# Altium footprint library Semi Conductor.PcbLib: 63 footprints (part 2 of 4)
Each footprint in its own frame and in the unit in brackets; x right, y up, seen from the top. Pads: shape width x height; smd on the part's side, far side on the other; paste and mask are expansions set on the pad; w line width, h text height; cw(c..) or ccw(c..) is an arc to the next point about the centre after c.
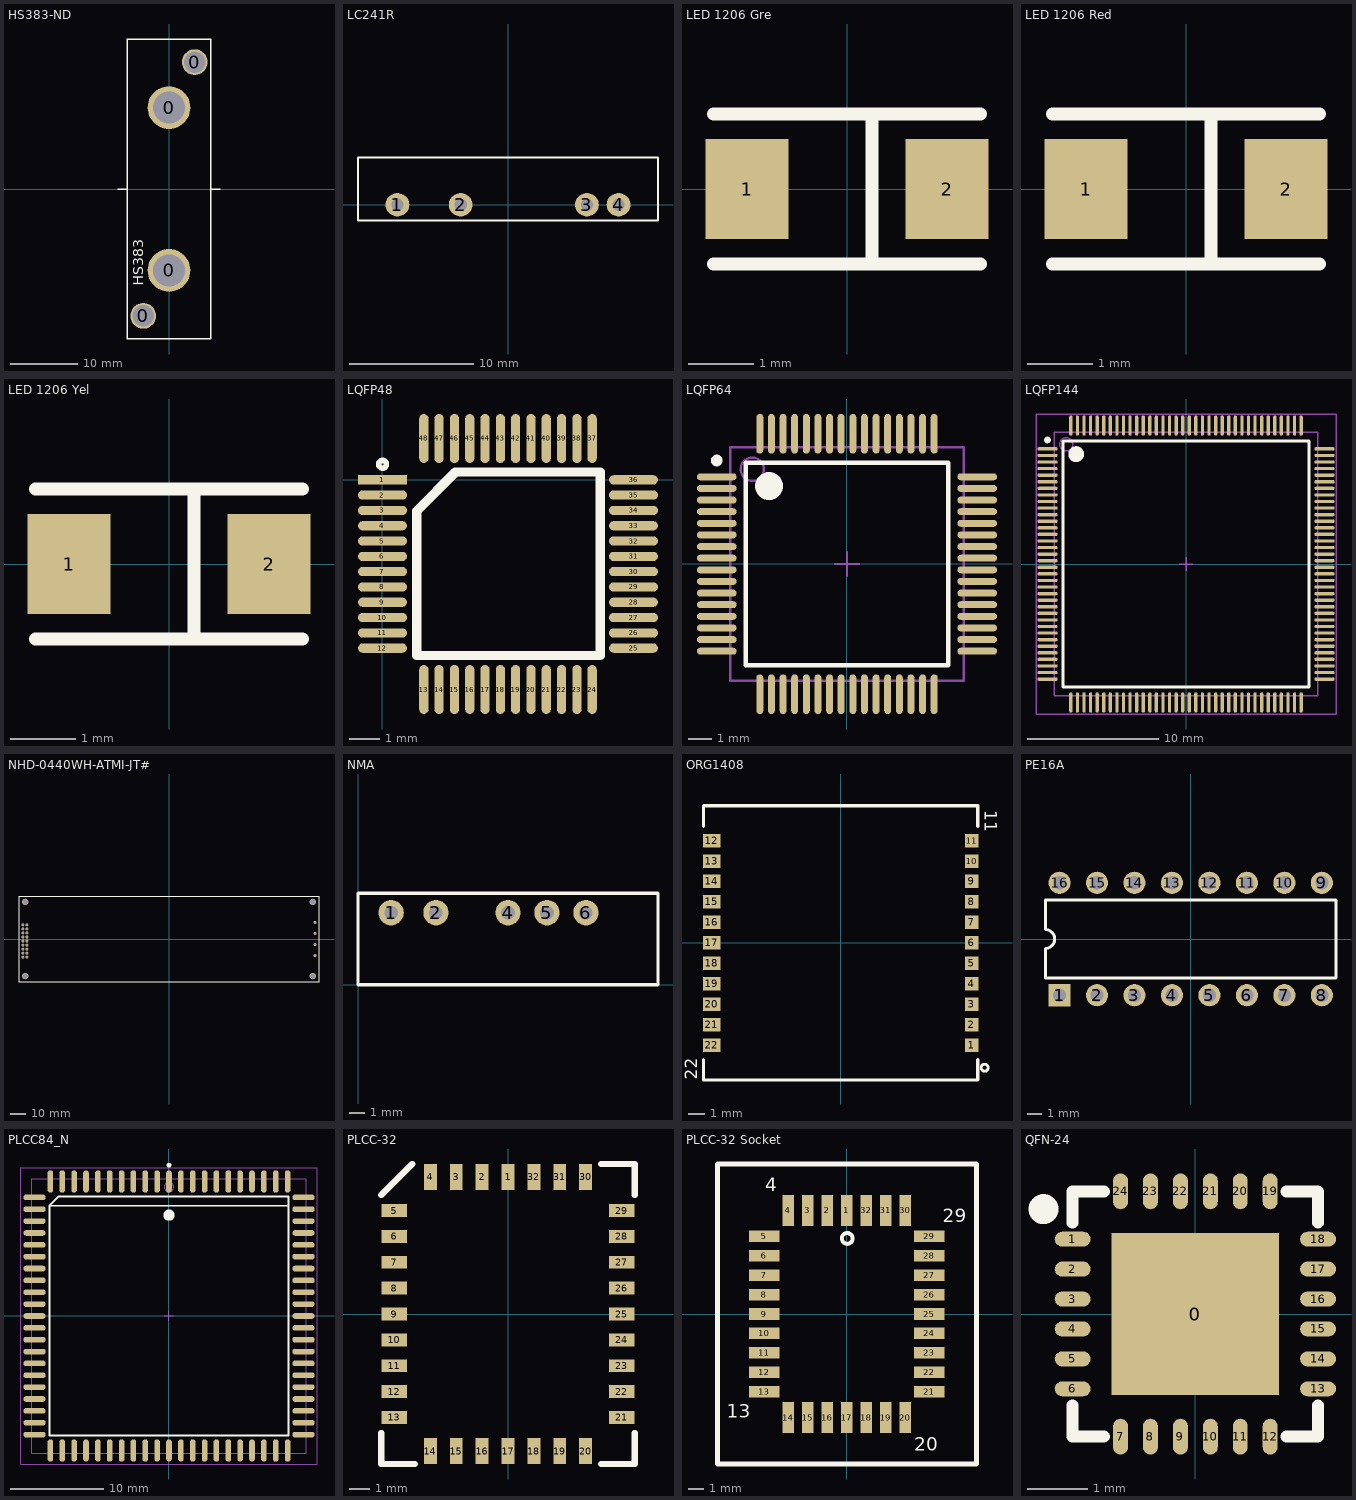
[diagram p1: the footprints below, top view; thin cyan lines are the x and y axes]

## HS383-ND [mil]
pads (4):
  round 150 / inner round 125 / far side round 150 hole 125: 0(-150,-740) 0(150,740)
  round 250 / inner round 187 / far side round 250 hole 187: 0(0,-475) 0(0,475)
TopOverlay:
  lines w8: -300,0 -245,0 ; 245,0 300,0 ; -245,-875 -245,875 245,875 245,-875 -245,-875
  text "HS383" at -150,-565 h60

## LC241R [mil] "Crydom SSR"
height 500
pads (4):
  round 75 hole 39: 1(-350,0) 2(-150,0) 3(250,0) 4(350,0)
TopOverlay:
  lines w7: -475,-50 -475,150 475,150 475,-50 -475,-50

## LED 1206 Gre [mil]
pads (2):
  rect 50x60 smd: 1(-60,0) 2(60,0)
TopOverlay:
  lines w8: -80,-45 80,-45 ; -80,45 80,45 ; 15,-45 15,45
3D body: height 43.81, standoff -15.9, extent -63,-32 63,31

## LED 1206 Red [mil] "LED 1206 footprint only"
height 25
pads (2):
  rect 50x60 smd: 1(-60,0) 2(60,0)
TopOverlay:
  lines w8: -80,-45 80,-45 ; -80,45 80,45 ; 15,-45 15,45
3D body: height 43.81, standoff -15.9, extent -63,-31 63,32

## LED 1206 Yel [mil]
pads (2):
  rect 50x60 smd: 1(-60,0) 2(60,0)
TopOverlay:
  lines w8: -80,-45 80,-45 ; -80,45 80,45 ; 15,-45 15,45
3D body: height 43.81, standoff -15.9, extent -63,-32 63,31

## LQFP48 [mm]
pads (48):
  rect 1.6x0.3 smd: 1(0,0)
  oval 1.6x0.3 smd: 2(0,-0.5) 3(0,-1) 4(0,-1.5) 5(0,-2) 6(0,-2.5) 7(0,-3) 8(0,-3.5) 9(0,-4) 10(0,-4.5) 11(0,-5) 12(0,-5.5) 25(8.2,-5.5) 26(8.2,-5) 27(8.2,-4.5) 28(8.2,-4) 29(8.2,-3.5) 30(8.2,-3) 31(8.2,-2.5) 32(8.2,-2) 33(8.2,-1.5) 34(8.2,-1) 35(8.2,-0.5) 36(8.2,0)
  oval 0.3x1.6 smd: 13(1.35,-6.85) 14(1.85,-6.85) 15(2.35,-6.85) 16(2.85,-6.85) 17(3.35,-6.85) 18(3.85,-6.85) 19(4.35,-6.85) 20(4.85,-6.85) 21(5.35,-6.85) 22(5.85,-6.85) 23(6.35,-6.85) 24(6.85,-6.85) 37(6.85,1.35) 38(6.35,1.35) 39(5.85,1.35) 40(5.35,1.35) 41(4.85,1.35) 42(4.35,1.35) 43(3.85,1.35) 44(3.35,1.35) 45(2.85,1.35) 46(2.35,1.35) 47(1.85,1.35) 48(1.35,1.35)
TopOverlay:
  circle w0.178: c0,0.508 r0.127
  lines w0.305: 1.118,-5.74 1.118,-5.512 1.118,-1.016 2.388,0.254 7.112,0.254 7.112,-5.74 1.118,-5.74
3D body: height 1.57, standoff 0, extent 0.635,-6.223 7.62,0.762

## LQFP64 [mm] "LQFP, 64-Leads, Body 12.1x12.1mm (max), Pitch 0.50mm, IPC Medium Density"
height 1.45
pads (64):
  oval 1.7x0.3 smd: 1(-5.6,3.75) 2(-5.6,3.25) 3(-5.6,2.75) 4(-5.6,2.25) 5(-5.6,1.75) 6(-5.6,1.25) 7(-5.6,0.75) 8(-5.6,0.25) 9(-5.6,-0.25) 10(-5.6,-0.75) 11(-5.6,-1.25) 12(-5.6,-1.75) 13(-5.6,-2.25) 14(-5.6,-2.75) 15(-5.6,-3.25) 16(-5.6,-3.75) 33(5.6,-3.75) 34(5.6,-3.25) 35(5.6,-2.75) 36(5.6,-2.25) 37(5.6,-1.75) 38(5.6,-1.25) 39(5.6,-0.75) 40(5.6,-0.25) 41(5.6,0.25) 42(5.6,0.75) 43(5.6,1.25) 44(5.6,1.75) 45(5.6,2.25) 46(5.6,2.75) 47(5.6,3.25) 48(5.6,3.75)
  oval 0.3x1.7 smd: 17(-3.75,-5.6) 18(-3.25,-5.6) 19(-2.75,-5.6) 20(-2.25,-5.6) 21(-1.75,-5.6) 22(-1.25,-5.6) 23(-0.75,-5.6) 24(-0.25,-5.6) 25(0.25,-5.6) 26(0.75,-5.6) 27(1.25,-5.6) 28(1.75,-5.6) 29(2.25,-5.6) 30(2.75,-5.6) 31(3.25,-5.6) 32(3.75,-5.6) 49(3.75,5.6) 50(3.25,5.6) 51(2.75,5.6) 52(2.25,5.6) 53(1.75,5.6) 54(1.25,5.6) 55(0.75,5.6) 56(0.25,5.6) 57(-0.25,5.6) 58(-0.75,5.6) 59(-1.25,5.6) 60(-1.75,5.6) 61(-2.25,5.6) 62(-2.75,5.6) 63(-3.25,5.6) 64(-3.75,5.6)
TopOverlay:
  circle w0.6: c-3.35,3.35 r0.3
  circle w0.25: c-5.6,4.45 r0.125
  lines w0.2: -4.35,-4.35 4.35,-4.35 4.35,4.35 -4.35,4.35 -4.35,-4.35
Mechanical13:
  circle w0.1: c-4.075,4.075 r0.5
  lines w0.1: -5.025,-5.025 5.025,-5.025 5.025,5.025 -5.025,5.025 -5.025,-5.025
Mechanical15:
  lines w0.1: -0.5,0 0.5,0 ; 0,-0.5 0,0.5
3D body: height 1.45, standoff 0.15, extent -5.025,-5.025 5.025,5.025

## LQFP144 [mm]
pads (144):
  oval 1.55x0.25 smd: 1(-10.525,8.75) 2(-10.525,8.25) 3(-10.525,7.75) 4(-10.525,7.25) 5(-10.525,6.75) 6(-10.525,6.25) 7(-10.525,5.75) 8(-10.525,5.25) 9(-10.525,4.75) 10(-10.525,4.25) 11(-10.525,3.75) 12(-10.525,3.25) 13(-10.525,2.75) 14(-10.525,2.25) 15(-10.525,1.75) 16(-10.525,1.25) 17(-10.525,0.75) 18(-10.525,0.25) 19(-10.525,-0.25) 20(-10.525,-0.75) 21(-10.525,-1.25) 22(-10.525,-1.75) 23(-10.525,-2.25) 24(-10.525,-2.75) 25(-10.525,-3.25) 26(-10.525,-3.75) 27(-10.525,-4.25) 28(-10.525,-4.75) 29(-10.525,-5.25) 30(-10.525,-5.75) 31(-10.525,-6.25) 32(-10.525,-6.75) 33(-10.525,-7.25) 34(-10.525,-7.75) 35(-10.525,-8.25) 36(-10.525,-8.75) 73(10.525,-8.75) 74(10.525,-8.25) 75(10.525,-7.75) 76(10.525,-7.25) 77(10.525,-6.75) 78(10.525,-6.25) 79(10.525,-5.75) 80(10.525,-5.25) 81(10.525,-4.75) 82(10.525,-4.25) 83(10.525,-3.75) 84(10.525,-3.25) 85(10.525,-2.75) 86(10.525,-2.25) 87(10.525,-1.75) 88(10.525,-1.25) 89(10.525,-0.75) 90(10.525,-0.25) 91(10.525,0.25) 92(10.525,0.75) 93(10.525,1.25) 94(10.525,1.75) 95(10.525,2.25) 96(10.525,2.75) 97(10.525,3.25) 98(10.525,3.75) 99(10.525,4.25) 100(10.525,4.75) 101(10.525,5.25) 102(10.525,5.75) 103(10.525,6.25) 104(10.525,6.75) 105(10.525,7.25) 106(10.525,7.75) 107(10.525,8.25) 108(10.525,8.75)
  oval 0.25x1.55 smd: 37(-8.75,-10.525) 38(-8.25,-10.525) 39(-7.75,-10.525) 40(-7.25,-10.525) 41(-6.75,-10.525) 42(-6.25,-10.525) 43(-5.75,-10.525) 44(-5.25,-10.525) 45(-4.75,-10.525) 46(-4.25,-10.525) 47(-3.75,-10.525) 48(-3.25,-10.525) 49(-2.75,-10.525) 50(-2.25,-10.525) 51(-1.75,-10.525) 52(-1.25,-10.525) 53(-0.75,-10.525) 54(-0.25,-10.525) 55(0.25,-10.525) 56(0.75,-10.525) 57(1.25,-10.525) 58(1.75,-10.525) 59(2.25,-10.525) 60(2.75,-10.525) 61(3.25,-10.525) 62(3.75,-10.525) 63(4.25,-10.525) 64(4.75,-10.525) 65(5.25,-10.525) 66(5.75,-10.525) 67(6.25,-10.525) 68(6.75,-10.525) 69(7.25,-10.525) 70(7.75,-10.525) 71(8.25,-10.525) 72(8.75,-10.525) 109(8.75,10.525) 110(8.25,10.525) 111(7.75,10.525) 112(7.25,10.525) 113(6.75,10.525) 114(6.25,10.525) 115(5.75,10.525) 116(5.25,10.525) 117(4.75,10.525) 118(4.25,10.525) 119(3.75,10.525) 120(3.25,10.525) 121(2.75,10.525) 122(2.25,10.525) 123(1.75,10.525) 124(1.25,10.525) 125(0.75,10.525) 126(0.25,10.525) 127(-0.25,10.525) 128(-0.75,10.525) 129(-1.25,10.525) 130(-1.75,10.525) 131(-2.25,10.525) 132(-2.75,10.525) 133(-3.25,10.525) 134(-3.75,10.525) 135(-4.25,10.525) 136(-4.75,10.525) 137(-5.25,10.525) 138(-5.75,10.525) 139(-6.25,10.525) 140(-6.75,10.525) 141(-7.25,10.525) 142(-7.75,10.525) 143(-8.25,10.525) 144(-8.75,10.525)
TopOverlay:
  circle w0.25: c-10.525,9.425 r0.125
  circle w0.6: c-8.35,8.35 r0.3
  lines w0.2: -9.35,-9.35 -9.35,9.35 9.35,9.35 9.35,-9.35 -9.35,-9.35
Mechanical13:
  circle w0.1: c-9.1,9.1 r0.5
  lines w0.1: -10,-10 -10,10 10,10 10,-10 -10,-10
Mechanical15:
  lines w0.1: -0.5,0 0.5,0 ; 0,-0.5 0,0.5 ; -11.4,-11.4 -11.4,11.4 11.4,11.4 11.4,-11.4 -11.4,-11.4
3D body: height 1.6, standoff 0, extent -10,-10 10,10

## NHD-0440WH-ATMI-JT# [mm]
pads (26):
  round 4 hole 3.5: 0(-91.059,-23.495) 0(-91.059,23.495) 0(91.059,-23.495) 0(91.059,23.495)
  round 1.8 hole 1.016: 1(-92.489,8.89) 2(-89.949,8.89) 3(-92.489,6.35) 4(-89.949,6.35) 5(-92.489,3.81) 6(-89.949,3.81) 7(-92.489,1.27) 8(-89.949,1.27) 9(-92.489,-1.27) 10(-89.949,-1.27) 11(-92.489,-3.81) 12(-89.949,-3.81) 13(-92.489,-6.35) 14(-89.949,-6.35) 15(-92.489,-8.89) 16(-89.949,-8.89) 17(-92.489,-11.43) 18(-89.949,-11.43) 19(92.489,10.5) 20(92.489,3.5) 21(92.489,-3.5) 22(92.489,-10.5)
TopOverlay:
  lines w0.203: -95,-27.051 94.996,-27.051 94.996,27.051 -95,27.051 ; -94.996,-27.051 -94.996,27.051

## NMA [mil]
pads (5):
  round 65 / inner round 35 / far side round 65 hole 35: 1(85,185) 2(200,185) 4(385,185) 5(485,185) 6(585,185)
TopOverlay:
  lines w8: 0,0 0,235 770,235 770,0 0,0

## ORG1408 [mil]
pads (22):
  rect 33x33 smd: 1(320,-250) 2(320,-200) 3(320,-150) 4(320,-100) 5(320,-50) 6(320,0) 7(320,50) 8(320,100) 9(320,150) 10(320,200) 11(320,250)
  rect 42x33 smd: 12(-315,250) 13(-315,200) 14(-315,150) 15(-315,100) 16(-315,50) 17(-315,0) 18(-315,-50) 19(-315,-100) 20(-315,-150) 21(-315,-200) 22(-315,-250)
TopOverlay:
  circle w7: c352,-305 r8.6
  lines w8: -335,-285 -335,-335 335,-335 335,-285 ; -335,285 -335,335 335,335 335,285
  text "22" at -351,-335 h30
  text "11" at 352,324 h30
3D body: height 175, standoff 3, extent -40,78 39,320
3D body: height 175, standoff 0, extent -91,-89 88.29,90.64
3D body: height 103, standoff 3, extent -329,-332 330,330

## PE16A [mm] "DIP; 16 Leads; Row Spacing 7.62 mm; Pitch 2.54 mm"
height 5.08
pads (16):
  rect 1.5x1.5 hole 0.889: 1(-8.89,-3.81)
  round 1.5 hole 0.889: 2(-6.35,-3.81) 3(-3.81,-3.81) 4(-1.27,-3.81) 5(1.27,-3.81) 6(3.81,-3.81) 7(6.35,-3.81) 8(8.89,-3.81) 9(8.89,3.81) 10(6.35,3.81) 11(3.81,3.81) 12(1.27,3.81) 13(-1.27,3.81) 14(-3.81,3.81) 15(-6.35,3.81) 16(-8.89,3.81)
TopOverlay:
  lines w0.2: -9.85,-2.65 9.85,-2.65 9.85,2.65 -9.85,2.65 -9.85,0.635 cw(c-9.85,0) -9.85,-0.635 -9.85,-2.65

## PLCC84_N [mm] "Leaded Chip Carrier, 84-Leads, Body 29.3x29.3mm, Pitch 1.27mm, IPC Medium Density"
height 4.58
pads (84):
  oval 0.6x2.4 smd: 1(0,14.4) 2(-1.27,14.4) 3(-2.54,14.4) 4(-3.81,14.4) 5(-5.08,14.4) 6(-6.35,14.4) 7(-7.62,14.4) 8(-8.89,14.4) 9(-10.16,14.4) 10(-11.43,14.4) 11(-12.7,14.4) 33(-12.7,-14.4) 34(-11.43,-14.4) 35(-10.16,-14.4) 36(-8.89,-14.4) 37(-7.62,-14.4) 38(-6.35,-14.4) 39(-5.08,-14.4) 40(-3.81,-14.4) 41(-2.54,-14.4) 42(-1.27,-14.4) 43(0,-14.4) 44(1.27,-14.4) 45(2.54,-14.4) 46(3.81,-14.4) 47(5.08,-14.4) 48(6.35,-14.4) 49(7.62,-14.4) 50(8.89,-14.4) 51(10.16,-14.4) 52(11.43,-14.4) 53(12.7,-14.4) 75(12.7,14.4) 76(11.43,14.4) 77(10.16,14.4) 78(8.89,14.4) 79(7.62,14.4) 80(6.35,14.4) 81(5.08,14.4) 82(3.81,14.4) 83(2.54,14.4) 84(1.27,14.4)
  oval 2.4x0.6 smd: 12(-14.4,12.7) 13(-14.4,11.43) 14(-14.4,10.16) 15(-14.4,8.89) 16(-14.4,7.62) 17(-14.4,6.35) 18(-14.4,5.08) 19(-14.4,3.81) 20(-14.4,2.54) 21(-14.4,1.27) 22(-14.4,0) 23(-14.4,-1.27) 24(-14.4,-2.54) 25(-14.4,-3.81) 26(-14.4,-5.08) 27(-14.4,-6.35) 28(-14.4,-7.62) 29(-14.4,-8.89) 30(-14.4,-10.16) 31(-14.4,-11.43) 32(-14.4,-12.7) 54(14.4,-12.7) 55(14.4,-11.43) 56(14.4,-10.16) 57(14.4,-8.89) 58(14.4,-7.62) 59(14.4,-6.35) 60(14.4,-5.08) 61(14.4,-3.81) 62(14.4,-2.54) 63(14.4,-1.27) 64(14.4,0) 65(14.4,1.27) 66(14.4,2.54) 67(14.4,3.81) 68(14.4,5.08) 69(14.4,6.35) 70(14.4,7.62) 71(14.4,8.89) 72(14.4,10.16) 73(14.4,11.43) 74(14.4,12.7)
TopOverlay:
  circle w0.25: c0,16.15 r0.125
  circle w0.6: c0,10.8 r0.3
  lines w0.2: 12.8,11.8 -12.8,11.8 ; -12.8,11.8 -11.8,12.8 12.8,12.8 12.8,-12.8 -12.8,-12.8 -12.8,11.8
Mechanical13:
  circle w0.1: c0,13.805 r0.5
  lines w0.1: -14.705,-14.705 -14.705,14.705 14.705,14.705 14.705,-14.705 -14.705,-14.705
Mechanical15:
  lines w0.1: -0.5,0 0.5,0 ; 0,-0.5 0,0.5 ; -15.85,-15.85 -15.85,15.85 15.85,15.85 15.85,-15.85 -15.85,-15.85
3D body: height 4.58, standoff 0, extent -14.705,-14.705 14.705,14.705

## PLCC-32 [mil]
pads (32):
  rect 25x50 smd: 1(0,265) 2(-50,265) 3(-100,265) 4(-150,265) 14(-150,-265) 15(-100,-265) 16(-50,-265) 17(0,-265) 18(50,-265) 19(100,-265) 20(150,-265) 30(150,265) 31(100,265) 32(50,265)
  rect 50x25 smd: 5(-220,200) 6(-220,150) 7(-220,100) 8(-220,50) 9(-220,0) 10(-220,-50) 11(-220,-100) 12(-220,-150) 13(-220,-200) 21(220,-200) 22(220,-150) 23(220,-100) 24(220,-50) 25(220,0) 26(220,50) 27(220,100) 28(220,150) 29(220,200)
TopOverlay:
  lines w12.4: -245,-230 -245,-290 -180,-290 ; -245,230 -185,290 ; 180,-290 245,-290 245,-230 ; 180,290 245,290 245,230
3D body: height 113.7, standoff -15.9, extent -245,-295 247.13,291.85

## PLCC-32 Socket [mm]
pads (32):
  rect 0.75x2 smd: 1(0,6.751) 2(-1.27,6.751) 3(-2.54,6.751) 4(-3.81,6.751) 14(-3.81,-6.751) 15(-2.54,-6.751) 16(-1.27,-6.751) 17(0,-6.751) 18(1.27,-6.751) 19(2.54,-6.751) 20(3.81,-6.751) 30(3.81,6.751) 31(2.54,6.751) 32(1.27,6.751)
  rect 2x0.75 smd: 5(-5.376,5.08) 6(-5.376,3.81) 7(-5.376,2.54) 8(-5.376,1.27) 9(-5.376,0) 10(-5.376,-1.27) 11(-5.376,-2.54) 12(-5.376,-3.81) 13(-5.376,-5.08) 21(5.376,-5.08) 22(5.376,-3.81) 23(5.376,-2.54) 24(5.376,-1.27) 25(5.376,0) 26(5.376,1.27) 27(5.376,2.54) 28(5.376,3.81) 29(5.376,5.08)
TopOverlay:
  circle w0.254: c0.024,4.925 r0.351
  lines w0.315: -8.425,-9.775 8.45,-9.775 8.45,9.775 -8.425,9.775 -8.425,-9.775
  text "13" at -7.825,-6.75 h0.89
  text "4" at -5.3,8 h0.89
  text "20" at 4.4,-8.9 h0.89
  text "29" at 6.25,5.975 h0.89
3D body: height 4.64, standoff 0.04, extent -8.434,-9.779 8.466,9.791

## QFN-24 [mm] "QFN, 24-Leads, Body 4.1x4.1mm (max), Pitch 0.50mm, IPC Medium Density"
height 0.9
pads (25):
  rect 2.8x2.7 smd: 0(0,0)
  oval 0.6x0.25 smd: 1(-2.05,1.25) 2(-2.05,0.75) 3(-2.05,0.25) 4(-2.05,-0.25) 5(-2.05,-0.75) 6(-2.05,-1.25) 13(2.05,-1.25) 14(2.05,-0.75) 15(2.05,-0.25) 16(2.05,0.25) 17(2.05,0.75) 18(2.05,1.25)
  oval 0.25x0.6 smd: 7(-1.25,-2.05) 8(-0.75,-2.05) 9(-0.25,-2.05) 10(0.25,-2.05) 11(0.75,-2.05) 12(1.25,-2.05) 19(1.25,2.05) 20(0.75,2.05) 21(0.25,2.05) 22(-0.25,2.05) 23(-0.75,2.05) 24(-1.25,2.05)
TopOverlay:
  circle w0.25: c-2.538,1.753 r0.125
  lines w0.2: -2.05,-1.525 -2.05,-2.05 -1.525,-2.05 ; -2.05,1.525 -2.05,2.05 -1.525,2.05 ; 1.525,-2.05 2.05,-2.05 2.05,-1.525 ; 1.525,2.05 2.05,2.05 2.05,1.525
3D body: height 0.9, standoff 0.02, extent -2.05,-2.05 2.05,2.05